# EAGLE library part 665106131822 (library WR-WTB)
WR-WTB 1.00 mm SMT Male Horizontal Shrouded Material Properties Insulator Material LCP Insulator Flammability Rating UL94 V-0 Color Beige Contact Material Phosphor Bronze Contact Plating Tin Contact Type Stamped Certification UL Approval E323964 General Information Operating Temperature -25 °C up to +85 °C Compliance RoHS IR 1 A Working Voltage 50 V (AC) Withstanding Voltage [UL] 500 V (AC) Contact Resistance 20 mΩ RISO 100 MΩ Pitch 1 mm Gender Male Type Horizontal Packaging Properties Packaging Tape and Reel Details see: www.we-online.com/en/components/products/WTB_1_00_SMT_MALE_HORIZONTAL_SHROUDED_HEADER_6651XX131822 Updated by Ella 2025-03-06 2025 (C) Würth Elektronik
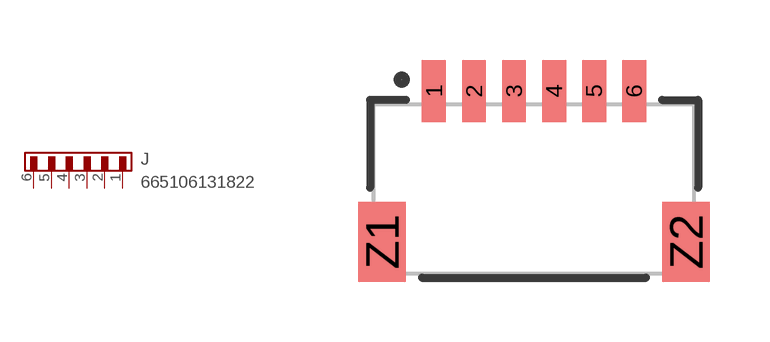
[diagram p111: symbol with the pads of 665106131822; footprint 665106131822]

Designator prefix J

## 665106131822 (CONTACT-RESISTANCE: 20mOhm; DATASHEET: https://www.we-online.com/redexpert/spec/665106131822?ae; GENDER: Male; IR: 1A; L: 8mm; MOUNT: SMT; PACKAGING: Tape and Reel; PART-NUMBER: 665106131822; PCB-CABLE-PANEL: PCB; PINS: 6; PITCH: 1mm; TYPE: Horizontal; VALUE: 665106131822; WORKING-VOLTAGE: 50V(AC))  [665106131822]
1  1  pas
2  2  pas
3  3  pas
4  4  pas
5  5  pas
6  6  pas

## Footprint 665106131822 (pad centres in mm)
WR-WTB 1.00 mm SMT Male Horizontal Shrouded, 6 pins
smd 0.6 x 1.55: 1 -2.5,1.92; 2 -1.5,1.92; 3 -0.5,1.92; 4 0.5,1.92; 5 1.5,1.92; 6 2.5,1.92
smd 1.2 x 2: Z1 -3.8,-1.855; Z2 3.8,-1.855